# EAGLE library part TMM-117-XX-X-D (library con-samtec-tmm)
HEADER
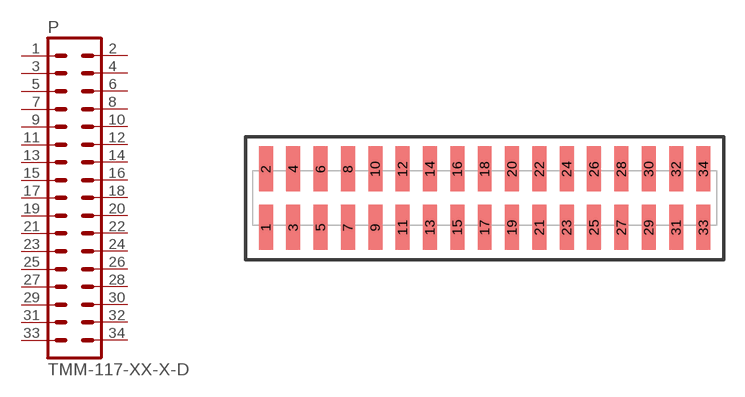
[diagram p14: symbol with the pads of TMM-117-XX-X-D; footprint TMM-117-XX-X-D]

Designator prefix P

## TMM-117-XX-X-D  [TMM-117-XX-X-D]
1  1  pas
2  2  pas
3  3  pas
4  4  pas
5  5  pas
6  6  pas
7  7  pas
8  8  pas
9  9  pas
10  10  pas
11  11  pas
12  12  pas
13  13  pas
14  14  pas
15  15  pas
16  16  pas
17  17  pas
18  18  pas
19  19  pas
20  20  pas
21  21  pas
22  22  pas
23  23  pas
24  24  pas
25  25  pas
26  26  pas
27  27  pas
28  28  pas
29  29  pas
30  30  pas
31  31  pas
32  32  pas
33  33  pas
34  34  pas

## Footprint TMM-117-XX-X-D (pad centres in mm)
HEADER
smd 1.02 x 3.3: 1 -16,-2.134; 2 -16,2.134; 3 -14,-2.134; 4 -14,2.134; 5 -12,-2.134; 6 -12,2.134; 7 -10,-2.134; 8 -10,2.134; 9 -8,-2.134; 10 -8,2.134; 11 -6,-2.134; 12 -6,2.134; 13 -4,-2.134; 14 -4,2.134; 15 -2,-2.134; 16 -2,2.134; 17 0,-2.134; 18 0,2.134; 19 2,-2.134; 20 2,2.134; 21 4,-2.134; 22 4,2.134; 23 6,-2.134; 24 6,2.134; 25 8,-2.134; 26 8,2.134; 27 10,-2.134; 28 10,2.134; 29 12,-2.134; 30 12,2.134; 31 14,-2.134; 32 14,2.134; 33 16,-2.134; 34 16,2.134